# Altium footprint library 2021-06-29_13-51-31.PcbLib: 3 footprints
Each footprint in its own frame and in the unit in brackets; x right, y up, seen from the top. Pads: shape width x height; smd on the part's side, far side on the other; paste and mask are expansions set on the pad; w line width, h text height; cw(c..) or ccw(c..) is an arc to the next point about the centre after c.
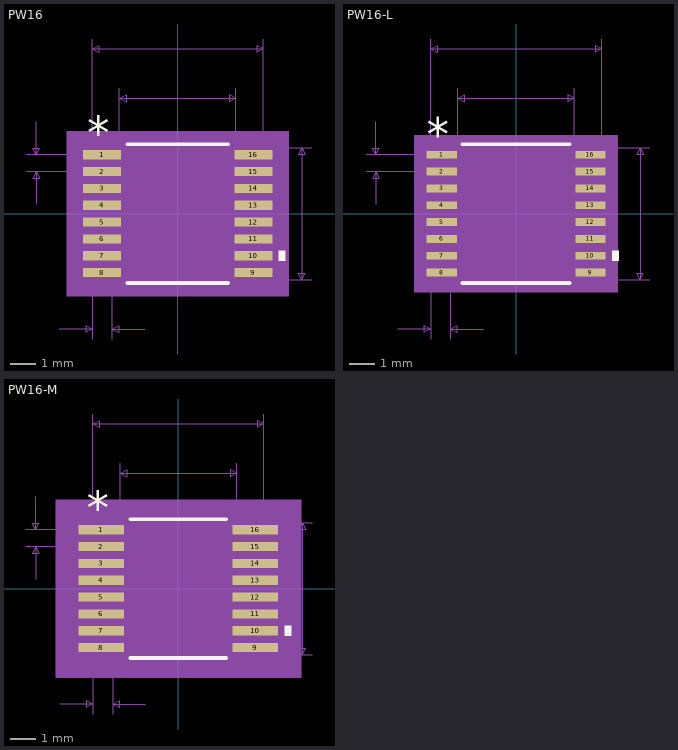
[diagram p0: the footprints below, top view; thin cyan lines are the x and y axes]

## PW16 [mm]
pads (16):
  rect 1.462x0.355 smd paste+0 mask+0: 1(-2.921,2.275) 2(-2.921,1.625) 3(-2.921,0.975) 4(-2.921,0.325) 5(-2.921,-0.325) 6(-2.921,-0.975) 7(-2.921,-1.625) 8(-2.921,-2.275) 9(2.921,-2.275) 10(2.921,-1.625) 11(2.921,-0.975) 12(2.921,-0.325) 13(2.921,0.325) 14(2.921,0.975) 15(2.921,1.625) 16(2.921,2.275)
Top Overlay:
  region: 3.906,-1.435 4.16,-1.435 4.16,-1.816 3.906,-1.816
  lines w0.152: -1.947,-2.68 1.947,-2.68 ; -1.947,2.68 1.947,2.68
  text "*" at -3.492,2.503 h1.27
Mechanical 5:
  region: 4.287,-3.188 -4.287,-3.188 -4.287,3.188 4.287,3.188
Mechanical 7:
  lines w0.025: -5.842,1.625 -2.921,1.625 ; -5.842,2.275 -2.921,2.275 ; -5.461,0.355 -5.461,1.625 ; -5.461,3.545 -5.461,2.275 ; -4.572,-4.458 -3.302,-4.458 ; -3.302,-4.839 -3.302,0 -3.302,6.744 ; -2.54,-4.839 -2.54,0 ; -2.248,0 -2.248,4.839 ; -1.27,-4.458 -2.54,-4.458 ; 0,-2.553 5.169,-2.553 ; 0,2.553 5.169,2.553 ; 2.248,0 2.248,4.839 ; 3.302,0 3.302,6.744 ; -5.461,1.625 -5.588,1.371 -5.334,1.371 -5.461,1.625 ; -5.461,2.275 -5.588,2.529 -5.334,2.529 -5.461,2.275 ; -3.302,-4.458 -3.556,-4.331 -3.556,-4.585 -3.302,-4.458 ; -3.302,6.363 3.302,6.363 ; -3.302,6.363 -3.048,6.49 -3.048,6.236 -3.302,6.363 ; -2.54,-4.458 -2.286,-4.331 -2.286,-4.585 -2.54,-4.458 ; -2.248,4.458 2.248,4.458 ; -2.248,4.458 -1.994,4.585 -1.994,4.331 -2.248,4.458 ; 2.248,4.458 1.994,4.585 1.994,4.331 2.248,4.458 ; 3.302,6.363 3.048,6.49 3.048,6.236 3.302,6.363 ; 4.788,-2.553 4.788,2.553 ; 4.788,-2.553 4.661,-2.299 4.915,-2.299 4.788,-2.553 ; 4.788,2.553 4.661,2.299 4.915,2.299 4.788,2.553
  text "Default Padstyle: r146_35" at -7.938,-7.633 h1.27
  text "Pin One Padstyle: r146_35" at -7.938,-9.157 h1.27
  text "Alt 1 Padstyle: b152_229h76" at -8.572,-13.729 h1.27
  text "Alt 2 Padstyle: b229_152h76" at -8.572,-15.253 h1.27
  text "0.177in/4.496mm" at -2.381,4.966 h0.64
  text "0.26in/6.604mm" at -2.222,6.871 h0.64
  text "0.201in/5.105mm" at 5.296,-0.318 h0.64
  text "0.026in/0.65mm" at -10.414,1.633 h0.64
  text "0.03in/0.762mm" at -5.143,-5.601 h0.64
Mechanical 13:
  lines w0: -0.305,2.553 ccw(c0,2.553) 0.305,2.553
  lines w0.025: -3.302,-2.427 -3.302,-2.123 -2.248,-2.123 -2.248,-2.427 -3.302,-2.427 ; -3.302,-1.777 -3.302,-1.473 -2.248,-1.473 -2.248,-1.777 -3.302,-1.777 ; -3.302,-1.127 -3.302,-0.823 -2.248,-0.823 -2.248,-1.127 -3.302,-1.127 ; -3.302,-0.477 -3.302,-0.173 -2.248,-0.173 -2.248,-0.477 -3.302,-0.477 ; -3.302,0.173 -3.302,0.477 -2.248,0.477 -2.248,0.173 -3.302,0.173 ; -3.302,0.823 -3.302,1.127 -2.248,1.127 -2.248,0.823 -3.302,0.823 ; -3.302,1.473 -3.302,1.777 -2.248,1.777 -2.248,1.473 -3.302,1.473 ; -3.302,2.123 -3.302,2.427 -2.248,2.427 -2.248,2.123 -3.302,2.123 ; -2.248,-2.553 2.248,-2.553 2.248,2.553 -2.248,2.553 -2.248,-2.553 ; 2.248,-2.427 2.248,-2.123 3.302,-2.123 3.302,-2.427 2.248,-2.427 ; 2.248,-1.777 2.248,-1.473 3.302,-1.473 3.302,-1.777 2.248,-1.777 ; 2.248,-1.127 2.248,-0.823 3.302,-0.823 3.302,-1.127 2.248,-1.127 ; 2.248,-0.477 2.248,-0.173 3.302,-0.173 3.302,-0.477 2.248,-0.477 ; 2.248,0.173 2.248,0.477 3.302,0.477 3.302,0.173 2.248,0.173 ; 2.248,0.823 2.248,1.127 3.302,1.127 3.302,0.823 2.248,0.823 ; 2.248,1.473 2.248,1.777 3.302,1.777 3.302,1.473 2.248,1.473 ; 2.248,2.123 2.248,2.427 3.302,2.427 3.302,2.123 2.248,2.123
  text "*" at -2.184,1.206 h1.27
Mechanical 15:
  region: -2.502,-2.706 -3.906,-2.706 -3.906,2.706 -2.502,2.706 -2.502,2.807 2.502,2.807 2.502,2.706 3.906,2.706 3.906,-2.706 2.502,-2.706 2.502,-2.807 -2.502,-2.807
  lines w0.152: -3.906,-2.706 -3.906,2.706 -2.502,2.706 -2.502,2.807 2.502,2.807 2.502,2.706 3.906,2.706 3.906,-2.706 2.502,-2.706 2.502,-2.807 -2.502,-2.807 -2.502,-2.706 -3.906,-2.706
3D body: height 0.25, standoff 0, extent 0,0 0.254,0.254

## PW16-L [mm]
pads (16):
  rect 1.162x0.305 smd paste+0 mask+0: 1(-2.871,2.275) 2(-2.871,1.625) 3(-2.871,0.975) 4(-2.871,0.325) 5(-2.871,-0.325) 6(-2.871,-0.975) 7(-2.871,-1.625) 8(-2.871,-2.275) 9(2.871,-2.275) 10(2.871,-1.625) 11(2.871,-0.975) 12(2.871,-0.325) 13(2.871,0.325) 14(2.871,0.975) 15(2.871,1.625) 16(2.871,2.275)
Top Overlay:
  region: 3.706,-1.435 3.96,-1.435 3.96,-1.816 3.706,-1.816
  lines w0.152: -2.073,-2.68 2.073,-2.68 ; -2.073,2.68 2.073,2.68
  text "*" at -3.443,2.453 h1.27
Mechanical 5:
  region: 3.935,-3.035 -3.935,-3.035 -3.935,3.035 3.935,3.035
Mechanical 7:
  lines w0.025: -5.792,1.625 -2.871,1.625 ; -5.792,2.275 -2.871,2.275 ; -5.411,0.355 -5.411,1.625 ; -5.411,3.545 -5.411,2.275 ; -4.572,-4.458 -3.302,-4.458 ; -3.302,-4.839 -3.302,0 -3.302,6.744 ; -2.54,-4.839 -2.54,0 ; -2.248,0 -2.248,4.839 ; -1.27,-4.458 -2.54,-4.458 ; 0,-2.553 5.169,-2.553 ; 0,2.553 5.169,2.553 ; 2.248,0 2.248,4.839 ; 3.302,0 3.302,6.744 ; -5.411,1.625 -5.538,1.371 -5.284,1.371 -5.411,1.625 ; -5.411,2.275 -5.538,2.529 -5.284,2.529 -5.411,2.275 ; -3.302,-4.458 -3.556,-4.331 -3.556,-4.585 -3.302,-4.458 ; -3.302,6.363 3.302,6.363 ; -3.302,6.363 -3.048,6.49 -3.048,6.236 -3.302,6.363 ; -2.54,-4.458 -2.286,-4.331 -2.286,-4.585 -2.54,-4.458 ; -2.248,4.458 2.248,4.458 ; -2.248,4.458 -1.994,4.585 -1.994,4.331 -2.248,4.458 ; 2.248,4.458 1.994,4.585 1.994,4.331 2.248,4.458 ; 3.302,6.363 3.048,6.49 3.048,6.236 3.302,6.363 ; 4.788,-2.553 4.788,2.553 ; 4.788,-2.553 4.661,-2.299 4.915,-2.299 4.788,-2.553 ; 4.788,2.553 4.661,2.299 4.915,2.299 4.788,2.553
  text "Default Padstyle: r116_30" at -7.938,-7.633 h1.27
  text "Pin One Padstyle: r116_30" at -7.938,-9.157 h1.27
  text "Alt 1 Padstyle: b152_229h76" at -8.572,-13.729 h1.27
  text "Alt 2 Padstyle: b229_152h76" at -8.572,-15.253 h1.27
  text "0.177in/4.496mm" at -2.381,4.966 h0.64
  text "0.26in/6.604mm" at -2.222,6.871 h0.64
  text "0.201in/5.105mm" at 5.296,-0.318 h0.64
  text "0.026in/0.65mm" at -10.364,1.633 h0.64
  text "0.03in/0.762mm" at -5.143,-5.601 h0.64
Mechanical 13:
  lines w0: -0.305,2.553 ccw(c0,2.553) 0.305,2.553
  lines w0.025: -3.302,-2.427 -3.302,-2.123 -2.248,-2.123 -2.248,-2.427 -3.302,-2.427 ; -3.302,-1.777 -3.302,-1.473 -2.248,-1.473 -2.248,-1.777 -3.302,-1.777 ; -3.302,-1.127 -3.302,-0.823 -2.248,-0.823 -2.248,-1.127 -3.302,-1.127 ; -3.302,-0.477 -3.302,-0.173 -2.248,-0.173 -2.248,-0.477 -3.302,-0.477 ; -3.302,0.173 -3.302,0.477 -2.248,0.477 -2.248,0.173 -3.302,0.173 ; -3.302,0.823 -3.302,1.127 -2.248,1.127 -2.248,0.823 -3.302,0.823 ; -3.302,1.473 -3.302,1.777 -2.248,1.777 -2.248,1.473 -3.302,1.473 ; -3.302,2.123 -3.302,2.427 -2.248,2.427 -2.248,2.123 -3.302,2.123 ; -2.248,-2.553 2.248,-2.553 2.248,2.553 -2.248,2.553 -2.248,-2.553 ; 2.248,-2.427 2.248,-2.123 3.302,-2.123 3.302,-2.427 2.248,-2.427 ; 2.248,-1.777 2.248,-1.473 3.302,-1.473 3.302,-1.777 2.248,-1.777 ; 2.248,-1.127 2.248,-0.823 3.302,-0.823 3.302,-1.127 2.248,-1.127 ; 2.248,-0.477 2.248,-0.173 3.302,-0.173 3.302,-0.477 2.248,-0.477 ; 2.248,0.173 2.248,0.477 3.302,0.477 3.302,0.173 2.248,0.173 ; 2.248,0.823 2.248,1.127 3.302,1.127 3.302,0.823 2.248,0.823 ; 2.248,1.473 2.248,1.777 3.302,1.777 3.302,1.473 2.248,1.473 ; 2.248,2.123 2.248,2.427 3.302,2.427 3.302,2.123 2.248,2.123
  text "*" at -2.184,1.206 h1.27
Mechanical 15:
  region: -2.349,-2.529 -3.554,-2.529 -3.554,2.529 -2.349,2.529 -2.349,2.654 2.349,2.654 2.349,2.529 3.554,2.529 3.554,-2.529 2.349,-2.529 2.349,-2.654 -2.349,-2.654
  lines w0.152: -3.554,-2.529 -3.554,2.529 -2.349,2.529 -2.349,2.654 2.349,2.654 2.349,2.529 3.554,2.529 3.554,-2.529 2.349,-2.529 2.349,-2.654 -2.349,-2.654 -2.349,-2.529 -3.554,-2.529
3D body: height 0.25, standoff 0, extent 0,0 0.254,0.254

## PW16-M [mm]
pads (16):
  rect 1.762x0.355 smd paste+0 mask+0: 1(-2.971,2.275) 2(-2.971,1.625) 3(-2.971,0.975) 4(-2.971,0.325) 5(-2.971,-0.325) 6(-2.971,-0.975) 7(-2.971,-1.625) 8(-2.971,-2.275) 9(2.971,-2.275) 10(2.971,-1.625) 11(2.971,-0.975) 12(2.971,-0.325) 13(2.971,0.325) 14(2.971,0.975) 15(2.971,1.625) 16(2.971,2.275)
Top Overlay:
  region: 4.106,-1.435 4.36,-1.435 4.36,-1.816 4.106,-1.816
  lines w0.152: -1.847,-2.68 1.847,-2.68 ; -1.847,2.68 1.847,2.68
  text "*" at -3.542,2.503 h1.27
Mechanical 5:
  region: 4.741,-3.442 -4.741,-3.442 -4.741,3.442 4.741,3.442
Mechanical 7:
  lines w0.025: -5.892,1.625 -2.971,1.625 ; -5.892,2.275 -2.971,2.275 ; -5.511,0.355 -5.511,1.625 ; -5.511,3.545 -5.511,2.275 ; -4.572,-4.458 -3.302,-4.458 ; -3.302,-4.839 -3.302,0 -3.302,6.744 ; -2.54,-4.839 -2.54,0 ; -2.248,0 -2.248,4.839 ; -1.27,-4.458 -2.54,-4.458 ; 0,-2.553 5.169,-2.553 ; 0,2.553 5.169,2.553 ; 2.248,0 2.248,4.839 ; 3.302,0 3.302,6.744 ; -5.511,1.625 -5.638,1.371 -5.384,1.371 -5.511,1.625 ; -5.511,2.275 -5.638,2.529 -5.384,2.529 -5.511,2.275 ; -3.302,-4.458 -3.556,-4.331 -3.556,-4.585 -3.302,-4.458 ; -3.302,6.363 3.302,6.363 ; -3.302,6.363 -3.048,6.49 -3.048,6.236 -3.302,6.363 ; -2.54,-4.458 -2.286,-4.331 -2.286,-4.585 -2.54,-4.458 ; -2.248,4.458 2.248,4.458 ; -2.248,4.458 -1.994,4.585 -1.994,4.331 -2.248,4.458 ; 2.248,4.458 1.994,4.585 1.994,4.331 2.248,4.458 ; 3.302,6.363 3.048,6.49 3.048,6.236 3.302,6.363 ; 4.788,-2.553 4.788,2.553 ; 4.788,-2.553 4.661,-2.299 4.915,-2.299 4.788,-2.553 ; 4.788,2.553 4.661,2.299 4.915,2.299 4.788,2.553
  text "Default Padstyle: r176_35" at -7.938,-7.633 h1.27
  text "Pin One Padstyle: r176_35" at -7.938,-9.157 h1.27
  text "Alt 1 Padstyle: b152_229h76" at -8.572,-13.729 h1.27
  text "Alt 2 Padstyle: b229_152h76" at -8.572,-15.253 h1.27
  text "0.177in/4.496mm" at -2.381,4.966 h0.64
  text "0.26in/6.604mm" at -2.222,6.871 h0.64
  text "0.201in/5.105mm" at 5.296,-0.318 h0.64
  text "0.026in/0.65mm" at -10.464,1.633 h0.64
  text "0.03in/0.762mm" at -5.143,-5.601 h0.64
Mechanical 13:
  lines w0: -0.305,2.553 ccw(c0,2.553) 0.305,2.553
  lines w0.025: -3.302,-2.427 -3.302,-2.123 -2.248,-2.123 -2.248,-2.427 -3.302,-2.427 ; -3.302,-1.777 -3.302,-1.473 -2.248,-1.473 -2.248,-1.777 -3.302,-1.777 ; -3.302,-1.127 -3.302,-0.823 -2.248,-0.823 -2.248,-1.127 -3.302,-1.127 ; -3.302,-0.477 -3.302,-0.173 -2.248,-0.173 -2.248,-0.477 -3.302,-0.477 ; -3.302,0.173 -3.302,0.477 -2.248,0.477 -2.248,0.173 -3.302,0.173 ; -3.302,0.823 -3.302,1.127 -2.248,1.127 -2.248,0.823 -3.302,0.823 ; -3.302,1.473 -3.302,1.777 -2.248,1.777 -2.248,1.473 -3.302,1.473 ; -3.302,2.123 -3.302,2.427 -2.248,2.427 -2.248,2.123 -3.302,2.123 ; -2.248,-2.553 2.248,-2.553 2.248,2.553 -2.248,2.553 -2.248,-2.553 ; 2.248,-2.427 2.248,-2.123 3.302,-2.123 3.302,-2.427 2.248,-2.427 ; 2.248,-1.777 2.248,-1.473 3.302,-1.473 3.302,-1.777 2.248,-1.777 ; 2.248,-1.127 2.248,-0.823 3.302,-0.823 3.302,-1.127 2.248,-1.127 ; 2.248,-0.477 2.248,-0.173 3.302,-0.173 3.302,-0.477 2.248,-0.477 ; 2.248,0.173 2.248,0.477 3.302,0.477 3.302,0.173 2.248,0.173 ; 2.248,0.823 2.248,1.127 3.302,1.127 3.302,0.823 2.248,0.823 ; 2.248,1.473 2.248,1.777 3.302,1.777 3.302,1.473 2.248,1.473 ; 2.248,2.123 2.248,2.427 3.302,2.427 3.302,2.123 2.248,2.123
  text "*" at -2.184,1.206 h1.27
Mechanical 15:
  region: -2.756,-2.96 -4.36,-2.96 -4.36,2.96 -2.756,2.96 -2.756,3.061 2.756,3.061 2.756,2.96 4.36,2.96 4.36,-2.96 2.756,-2.96 2.756,-3.061 -2.756,-3.061
  lines w0.152: -4.36,-2.96 -4.36,2.96 -2.756,2.96 -2.756,3.061 2.756,3.061 2.756,2.96 4.36,2.96 4.36,-2.96 2.756,-2.96 2.756,-3.061 -2.756,-3.061 -2.756,-2.96 -4.36,-2.96
3D body: height 0.25, standoff 0, extent 0,0 0.254,0.254